# Altium schematic symbol library MiniFit.SchLib: 1 symbol
Pins are listed as number, name and electrical type; pins without a type are passive.

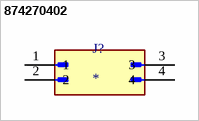
[diagram p0: symbol 874270402]

## 874270402
designator J?
Conn Wire to Board HDR 4 POS 4.2mm Solder RA Side Entry Thru-Hole Mini-Fit Jrâ„¢ Tray; MP: 874270402; MF: Molex; Package: None; SnapEDA_Link: https://www.snapeda.com/parts/874270402/Molex/view-part/?ref=snap; Check_prices: https://www.snapeda.com/parts/874270402/Molex/view-part/?ref=eda; Availability: In Stock; Value: *; Purchase-URL: https://pricing.snapeda.com/search/part/874270402/?ref=eda; Price: None
footprint MOLEX_874270402
pins: 1, 2, 3, 4